# EAGLE library part TQFP48-DIP (library _Packages IC)
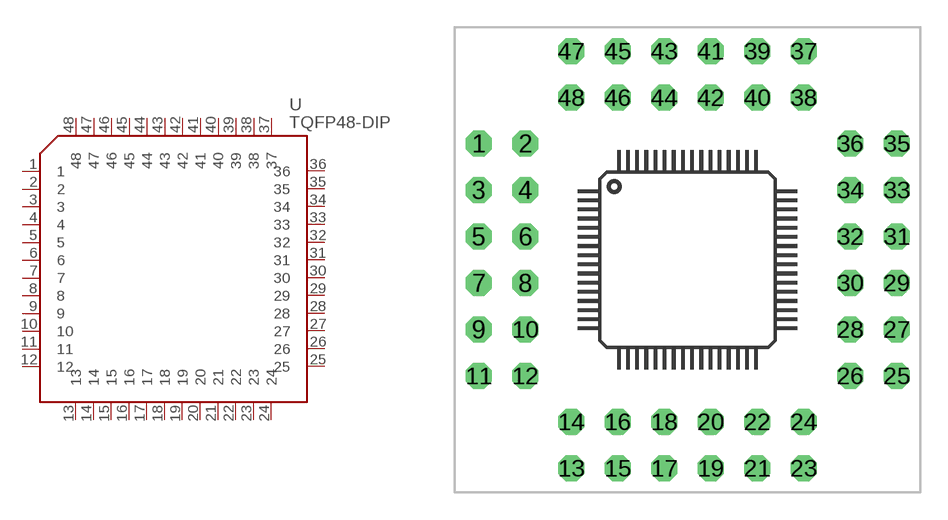
[diagram p2: symbol with the pads of TQFP48-DIP; footprint TQFP48-DIP]

Designator prefix -

## TQFP48-DIP  [TQFP48-DIP]
1  1
2  2
3  3
4  4
5  5
6  6
7  7
8  8
9  9
10  10
11  11
12  12
13  13
14  14
15  15
16  16
17  17
18  18
19  19
20  20
21  21
22  22
23  23
24  24
25  25
26  26
27  27
28  28
29  29
30  30
31  31
32  32
33  33
34  34
35  35
36  36
37  37
38  38
39  39
40  40
41  41
42  42
43  43
44  44
45  45
46  46
47  47
48  48

## Footprint TQFP48-DIP (pad centres in mm)
drill 0.6 pad 1.422 octagon: 1 -11.4,6.35; 2 -8.86,6.35; 3 -11.4,3.81; 4 -8.86,3.81; 5 -11.4,1.27; 6 -8.86,1.27; 7 -11.4,-1.27; 8 -8.86,-1.27; 9 -11.4,-3.81; 10 -8.86,-3.81; 11 -11.4,-6.35; 12 -8.86,-6.35; 13 -6.35,-11.4; 14 -6.35,-8.86; 15 -3.81,-11.4; 16 -3.81,-8.86; 17 -1.27,-11.4; 18 -1.27,-8.86; 19 1.27,-11.4; 20 1.27,-8.86; 21 3.81,-11.4; 22 3.81,-8.86; 23 6.35,-11.4; 24 6.35,-8.86; 25 11.43,-6.35; 26 8.89,-6.35; 27 11.43,-3.81; 28 8.89,-3.81; 29 11.43,-1.27; 30 8.89,-1.27; 31 11.43,1.27; 32 8.89,1.27; 33 11.43,3.81; 34 8.89,3.81; 35 11.43,6.35; 36 8.89,6.35; 37 6.35,11.4; 38 6.35,8.86; 39 3.81,11.4; 40 3.81,8.86; 41 1.27,11.4; 42 1.27,8.86; 43 -1.27,11.4; 44 -1.27,8.86; 45 -3.81,11.4; 46 -3.81,8.86; 47 -6.35,11.4; 48 -6.35,8.86